# Altium footprint library E32-433T20D.PcbLib: 1 footprints
Each footprint in its own frame and in the unit in brackets; x right, y up, seen from the top. Pads: shape width x height; smd on the part's side, far side on the other; paste and mask are expansions set on the pad; w line width, h text height; cw(c..) or ccw(c..) is an arc to the next point about the centre after c.
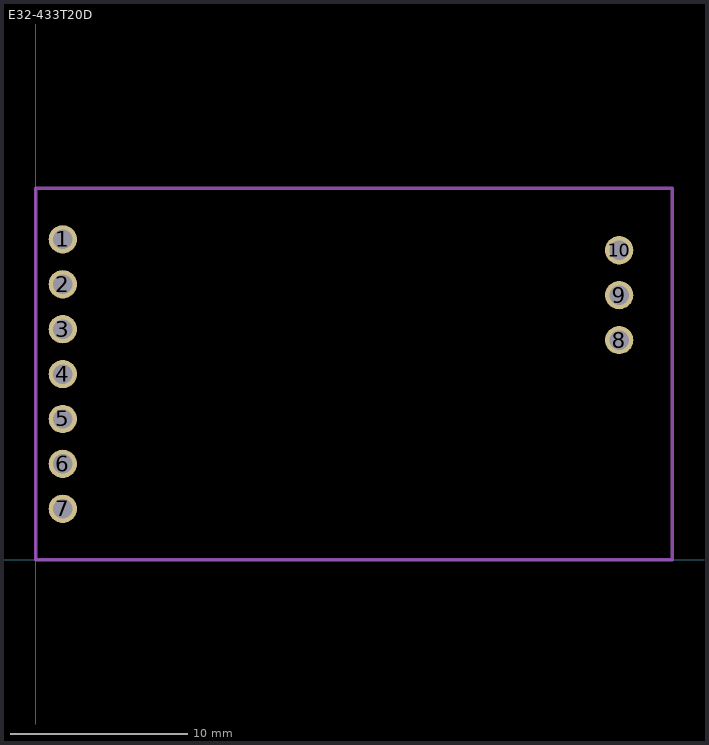
[diagram p0: the footprint, top view; thin cyan lines are the x and y axes]

## E32-433T20D [mm]
pads (10):
  round 1.6 hole 1.1: 1(1.526,18.115) 2(1.526,15.575) 3(1.526,13.035) 4(1.526,10.495) 5(1.526,7.955) 6(1.526,5.415) 7(1.526,2.875) 8(33,12.42) 9(33,14.96) 10(33,17.5)
Mechanical 1:
  lines w0.2: 0,0 36,0 36,21 0,21 0,0
3D body "E32-433T20D.step": height 7.56, standoff -5.81, extent 0,0 48.5,21